# Altium footprint library YED-P2142A13 - duplicate.PcbLib: 1 footprints
Each footprint in its own frame and in the unit in brackets; x right, y up, seen from the top. Pads: shape width x height; smd on the part's side, far side on the other; paste and mask are expansions set on the pad; w line width, h text height; cw(c..) or ccw(c..) is an arc to the next point about the centre after c.
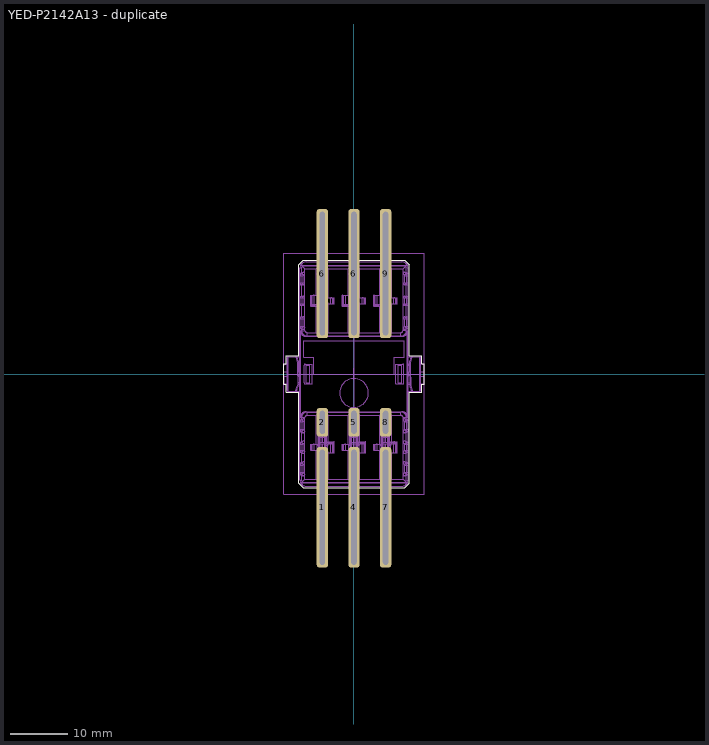
[diagram p0: the footprint, top view; thin cyan lines are the x and y axes]

## YED-P2142A13 - duplicate [mm] "Power-Bar-Connector 3pol"
height 39.5
pads (9):
  rrect50% 2x21 hole 0.9 slot 20 at 90 deg unplated: 1(-5.5,-23.2) 4(0,-23.2) 7(5.5,-23.2)
  rrect50% 2x5 hole 0.9 slot 4 at 90 deg unplated: 2(-5.5,-8.4) 5(0,-8.4) 8(5.5,-8.4)
  rrect50% 2x22.5 hole 0.9 slot 21.5 at 90 deg unplated: 6(-5.5,17.5) 6(0,17.5) 9(5.5,17.5)
Top Overlay:
  lines w0.2: -12.2,-1.8 -12.2,0 -12.2,1.8 -11.8,1.8 -11.8,3.2 -9.6,3.2 -9.6,5.5 -9.6,19 -8.8,19.8 8.8,19.8 9.6,19 9.6,3.2 11.8,3.2 11.8,1.8 12.2,1.8 12.2,0 12.2,-1.8 11.8,-1.8 11.8,-3.2 9.6,-3.2 9.6,-19 8.8,-19.8 -8.8,-19.8 -9.6,-19 -9.6,-5.5 -9.6,-3.2 -11.8,-3.2 -11.8,-1.8 -12.2,-1.8
Mechanical 1:
  drawing of 2838 lines, arcs and shapes, not listed
Mechanical 3:
  lines w0.1: -6,-12.945 -5.9,-12.945 ; -6,-12.645 -5.9,-12.645 ; -5.917,-12.945 -5.917,-12.645 ; -5.917,-10.7 -5.9,-10.7 ; -5.9,-11.57 -5.9,-6.77 -5.1,-6.77 -5.1,-11.57 ; -5.9,-10.745 -5.1,-10.745 ; -5.899,7.6 -5.099,7.6 ; -5.799,7.6 -5.799,28 ; -5.199,7.6 -5.199,28 ; -5.1,-12.945 -5,-12.945 ; -5.1,-12.645 -5,-12.645 ; -5.083,-12.945 -5.083,-12.645 ; -0.5,-12.945 -0.4,-12.945 ; -0.5,-12.645 -0.4,-12.645 ; -0.417,-12.945 -0.417,-12.645 ; -0.417,-10.7 -0.4,-10.7 ; -0.4,-11.57 -0.4,-6.77 0.4,-6.77 0.4,-11.57 ; -0.4,-10.745 0.4,-10.745 ; -0.399,7.6 0.401,7.6 ; -0.299,7.6 -0.299,28 ; 0.301,7.6 0.301,28 ; 0.4,-12.945 0.5,-12.945 ; 0.4,-12.645 0.5,-12.645 ; 0.417,-12.945 0.417,-12.645 ; 5.001,-12.945 5.101,-12.945 ; 5.001,-12.645 5.101,-12.645 ; 5.084,-12.945 5.084,-12.645 ; 5.084,-10.7 5.101,-10.7 ; 5.101,-11.57 5.101,-6.77 5.901,-6.77 5.901,-11.57 ; 5.101,-10.745 5.901,-10.745 ; 5.101,7.6 5.901,7.6 ; 5.201,7.6 5.201,28 ; 5.801,7.6 5.801,28 ; 5.901,-12.945 6.001,-12.945 ; 5.901,-12.645 6.001,-12.645 ; 5.918,-12.945 5.918,-12.645 ; -6,-32.675 ccw(c-5.5,-32.675) -5,-32.675 -5,-6.925 ccw(c-5.5,-6.925) -6,-6.925 -6,-32.675 ; -6,7.25 ccw(c-5.5,7.25) -5,7.25 -5,27.75 ccw(c-5.5,27.75) -6,27.75 -6,7.25 ; -5.9,-32.275 -5.9,-11.025 -5.1,-11.025 -5.1,-32.275 -5.9,-32.275 ; -5.899,7 -5.099,7 -5.099,28 -5.899,28 -5.899,7 ; -0.5,-32.675 ccw(c0,-32.675) 0.5,-32.675 0.5,-6.925 ccw(c0,-6.925) -0.5,-6.925 -0.5,-32.675 ; -0.499,7.25 ccw(c0.001,7.25) 0.501,7.25 0.501,27.75 ccw(c0.001,27.75) -0.499,27.75 -0.499,7.25 ; -0.4,-32.275 0.4,-32.275 0.4,-11.025 -0.4,-11.025 -0.4,-32.275 ; -0.399,7 0.401,7 0.401,28 -0.399,28 -0.399,7 ; 5.001,-32.675 ccw(c5.501,-32.675) 6.001,-32.675 6.001,-6.925 ccw(c5.501,-6.925) 5.001,-6.925 5.001,-32.675 ; 5.001,7.25 ccw(c5.501,7.25) 6.001,7.25 6.001,27.75 ccw(c5.501,27.75) 5.001,27.75 5.001,7.25 ; 5.101,-32.275 5.901,-32.275 5.901,-11.025 5.101,-11.025 5.101,-32.275 ; 5.101,7 5.901,7 5.901,28 5.101,28 5.101,7
Mechanical 13:
  lines w0.1: -12.2,-20.9 -12.2,21 12.2,21 12.2,-20.9 -12.2,-20.9
Mechanical 15:
  lines w0.15: -12.166,-0.398 -12.166,-1.588 ; -11.749,-1.686 -11.751,-1.686 cw(c-11.789,11.391) -11.89,-1.686 -11.907,-1.683 -11.908,-1.682 -12.072,-1.622 -12.166,-1.588 ; -11.749,-0.336 -12.149,-0.336 ccw(c-12.149,-0.386) -12.199,-0.386 -12.199,-1.542 -12.199,-1.543 -12.199,-1.546 ccw(c-12.151,-1.543) -12.166,-1.588 ; -11.749,0.364 -12.149,0.364 cw(c-12.149,0.414) -12.199,0.414 -12.199,1.57 -12.199,1.571 -12.199,1.574 cw(c-12.151,1.57) -12.166,1.616 -12.002,1.676 -11.908,1.71 -11.907,1.71 -11.89,1.713 cw(c-11.801,-6.311) -11.751,1.714 -11.749,1.714 ; -9.451,-7.689 cw(c-8.313,-7.702) -8.3,-6.564 8.3,-6.564 cw(c8.313,-7.702) 9.451,-7.689 ; -9.45,-2.986 -11.449,-2.986 cw(c-11.449,-2.786) -11.649,-2.786 -11.649,0.014 -11.649,2.814 cw(c-11.449,2.814) -11.449,3.014 -9.45,3.014 ; -9.451,7.689 ccw(c-8.313,7.702) -8.3,6.564 8.3,6.564 ccw(c8.313,7.702) 9.451,7.689 ; -9.271,-18.964 9.273,-18.964 ; -9.271,18.964 9.273,18.964 ; -7,0 7,0 7.001,0.001 7.001,2.972 8.751,2.972 8.751,5.806 -8.749,5.806 -8.749,2.972 -7,2.972 -7,0.014 ; -6.5,-19.8 -4.5,-19.8 ; -6.5,17.5 -4.5,17.5 ; -6.176,-18.964 -6.176,-6.571 ; -6.176,6.571 -6.176,18.964 ; -5.5,-20.8 -5.5,-18.8 ; -5.5,16.5 -5.5,18.5 ; -4.823,-18.964 -4.823,-6.571 ; -4.823,6.571 -4.823,18.964 ; -1,-19.8 1,-19.8 ; -0.999,17.5 1.001,17.5 ; -0.977,-19.525 cw(c-1.145,-19.884) -0.749,-19.884 ; -0.977,19.525 ccw(c-1.145,19.884) -0.749,19.884 ; -0.749,-19.888 -0.749,-20.736 ccw(c-0.549,-20.736) -0.549,-20.936 0.551,-20.936 ccw(c0.551,-20.736) 0.751,-20.736 0.751,-19.888 ; -0.749,19.888 -0.749,20.736 cw(c-0.549,20.736) -0.549,20.936 0.551,20.936 cw(c0.551,20.736) 0.751,20.736 0.751,19.888 ; -0.676,-18.964 -0.676,-6.571 ; -0.676,6.571 -0.676,18.964 ; 0,-20.8 0,-18.8 ; 0,-1 0,1 ; 0.001,16.5 0.001,18.5 ; 0.677,-18.964 0.677,-6.571 ; 0.677,6.571 0.677,18.964 ; 0.751,-19.884 cw(c1.147,-19.884) 0.978,-19.525 ; 0.751,19.884 ccw(c1.146,19.884) 0.978,19.525 ; 4.5,-19.8 6.5,-19.8 ; 4.501,17.5 6.501,17.5 ; 4.824,-18.964 4.824,-6.571 ; 4.824,6.571 4.824,18.964 ; 5.5,-20.8 5.5,-18.8 ; 5.501,16.5 5.501,18.5 ; 6.177,-18.9 6.177,-6.571 ; 6.177,6.571 6.177,18.9 ; 9.451,-18.4 cw(c8.313,-18.387) 8.3,-19.525 -8.3,-19.525 cw(c-8.313,-18.387) -9.451,-18.4 -9.45,18.4 cw(c-8.313,18.387) -8.3,19.525 8.3,19.525 cw(c8.313,18.387) 9.451,18.4 ; 9.451,-18.4 9.451,18.4 ; 9.451,-2.986 11.451,-2.986 ccw(c11.451,-2.786) 11.651,-2.786 11.651,0.014 11.651,2.814 ccw(c11.451,2.814) 11.451,3.014 9.451,3.014 ; 11.751,-0.336 12.151,-0.336 cw(c12.151,-0.386) 12.201,-0.386 12.201,-1.542 ; 11.751,0.364 12.151,0.364 ccw(c12.151,0.414) 12.201,0.414 12.201,1.57 ; 11.752,-1.686 ccw(c11.803,6.339) 11.892,-1.686 ; 11.752,1.714 cw(c11.79,-11.364) 11.892,1.713 ; 11.909,-1.682 12.003,-1.648 12.168,-1.588 ccw(c12.153,-1.543) 12.201,-1.546 ; 11.909,1.71 12.168,1.616 cw(c12.153,1.57) 12.201,1.574
3D body: height 39.5, standoff 0.1, extent -12.2,-19.888 12.3,19.9
3D body "P2142A13-e.STEP": height 39.5, standoff 0, extent -12.2,-20.95 12.2,20.95
3D body: height 6.3, standoff -12, extent 5.1,-11.55 5.9,-6.75
3D body: height 6.3, standoff -12, extent -5.9,-11.55 -5.1,-6.75
3D body: height 6.3, standoff -12, extent -0.4,-11.55 0.4,-6.75
3D body: height 6.3, standoff -1.7, extent -0.4,-32.85 0.4,-11.85
3D body: height 6.3, standoff -1.7, extent 5.1,-32.85 5.9,-11.85
3D body: height 6.3, standoff -1.7, extent 5.101,7 5.901,28
3D body: height 6.3, standoff -1.7, extent -0.399,7.105 0.401,28
3D body: height 6.3, standoff -1.7, extent -5.899,7 -5.099,28
3D body: height 6.3, standoff -1.7, extent -5.9,-32.85 -5.1,-11.85